# Altium schematic symbol library Buttons.SchLib: 3 symbols
Pins are listed as number, name and electrical type; pins without a type are passive.

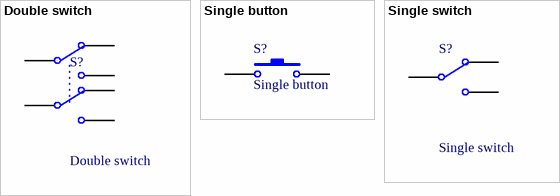
[diagram p0: symbols Double switch to Single switch]

## Double switch
designator S?
Different footprints; Published: 24-Mar-1999; LatestRevisionDate: 17-Jul-2002; LatestRevisionNote: Re-released for DXP Platform.; PackageReference: DPDT-6; Publisher: Altium Limited; PackageDescription: Switch; 6 Leads
footprint double switch 8.5mm (Switch; 6 Leads)
pins: 1, 2, 3, 3, 4, 6

## Single button
designator S?
Different footprints; Published: 24-Mar-1999; LatestRevisionDate: 17-Jul-2002; LatestRevisionNote: Re-released for DXP Platform.; PackageReference: SPST-2; Publisher: Altium Limited; PackageDescription: Switch; 2 Leads
footprint SWT 12x12mm (Big button)
footprint SWT-39 smd button (TM1103R25B)
footprint SWT-6 R DIP single button (Button, 2 Leads)
pins: 1, 2

## Single switch
designator S?
Different footprints; Published: 24-Mar-1999; LatestRevisionDate: 17-Jul-2002; LatestRevisionNote: Re-released for DXP Platform.; PackageReference: DPDT-6; Publisher: Altium Limited; PackageDescription: Switch; 6 Leads
footprint double switch 8.5mm side (Switch; 3 Leads)
pins: 1, 2, 3